# Altium footprint library Gan_cuk converter.PcbLib: 51 footprints (part 2 of 4)
Each footprint in its own frame and in the unit in brackets; x right, y up, seen from the top. Pads: shape width x height; smd on the part's side, far side on the other; paste and mask are expansions set on the pad; w line width, h text height; cw(c..) or ccw(c..) is an arc to the next point about the centre after c.
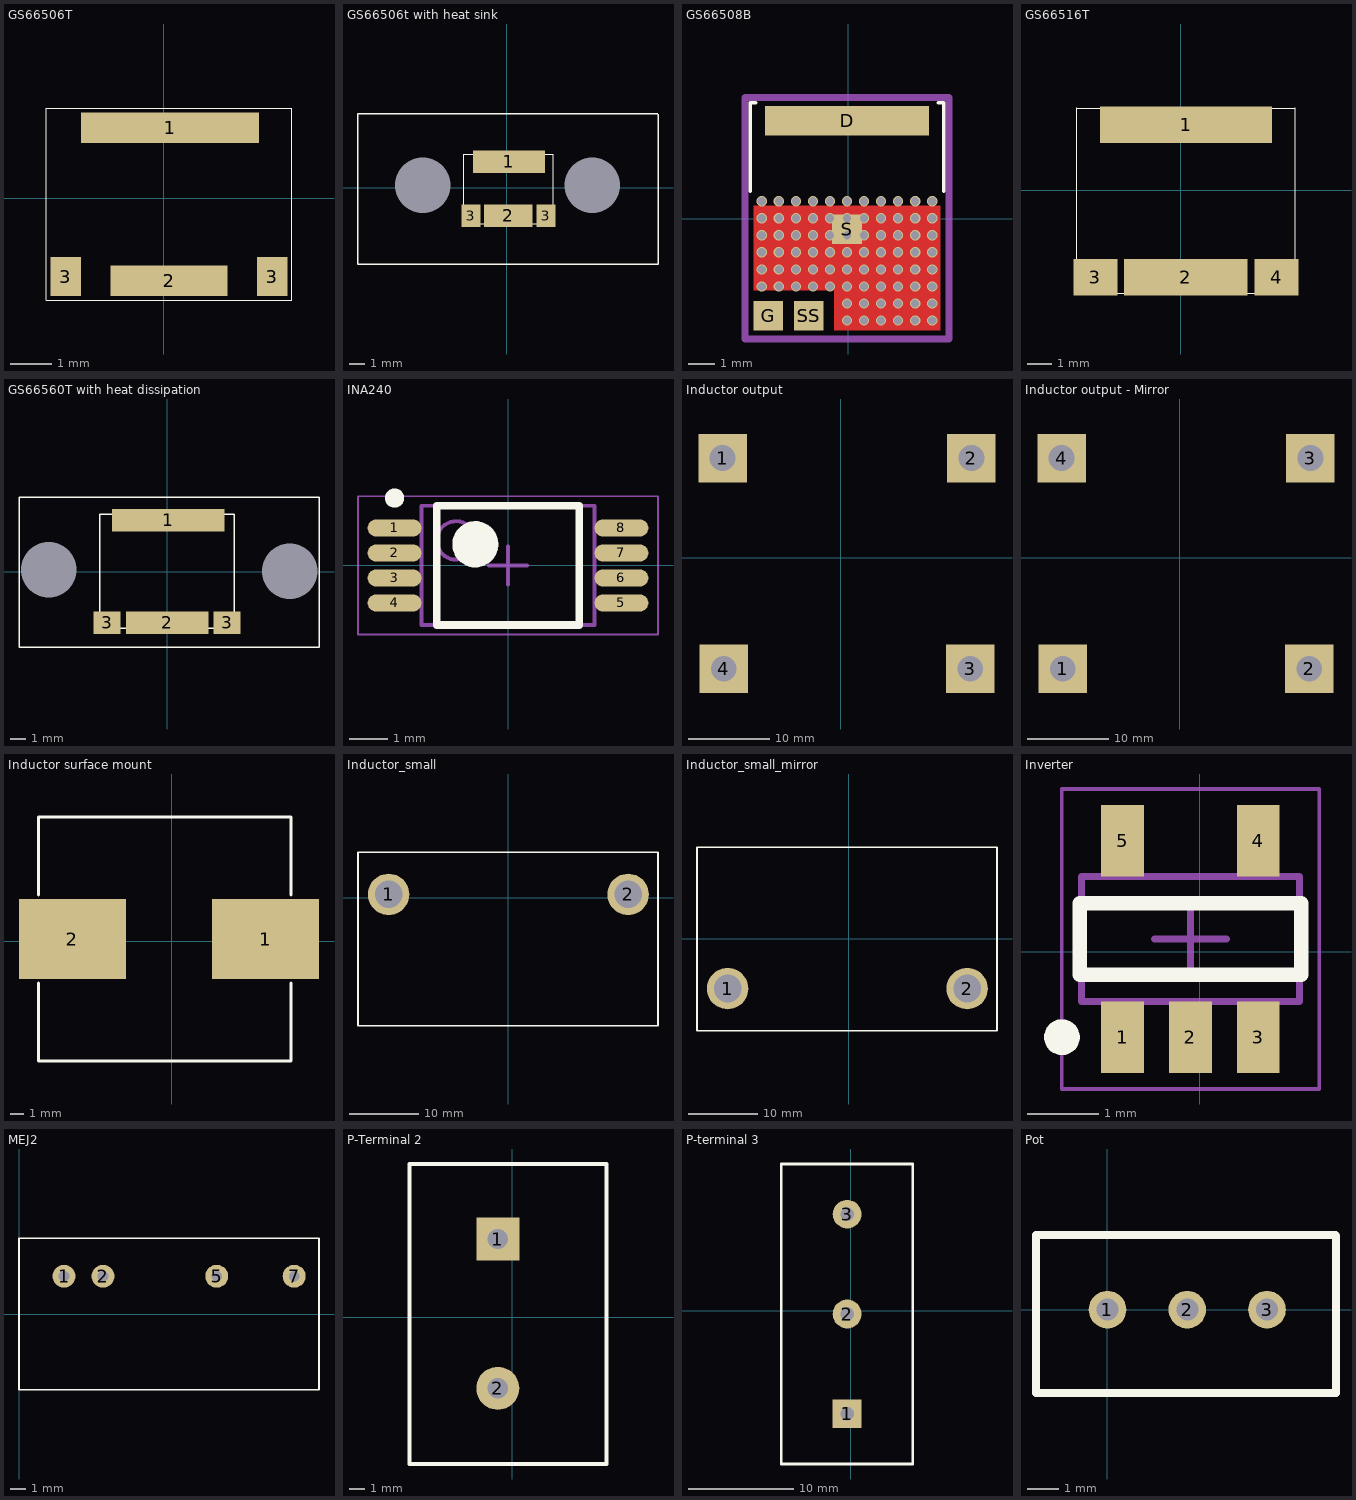
[diagram p1: the footprints below, top view; thin cyan lines are the x and y axes]

## GS66506T [mm] "Top cooled 650V enhancement mode GaN transistor"
height 0.44
pads (4):
  rect 4.3x0.74 smd: 1(0.15,1.7)
  rect 2.82x0.74 smd: 2(0.125,-2)
  rect 0.74x0.94 smd: 3(-2.375,-1.9) 3(2.625,-1.9)
Top Overlay:
  lines w0.025: -2.85,-2.475 -2.85,2.172 3.1,2.172 3.1,-2.475 -2.85,-2.475

## GS66506t with heat sink [mm]
pads (6):
  rect 4.8x1.5 smd: 1(0.15,1.7)
  rect 3.23x1.5 smd: 2(0.125,-1.9)
  rect 1.25x1.5 smd: 3(-2.375,-1.9) 3(2.625,-1.9)
  rect 0x0 hole 3.7: ""(-5.575,0.15) ""(5.725,0.15)
Top Overlay:
  lines w0.025: -2.85,-2.425 3.1,-2.425 3.1,2.222 -2.85,2.222 -2.85,-2.425
  lines w0.1: 10.075,4.9 -9.9,4.9 -9.9,-5.1 10.1,-5.1 10.1,4.875
3D body: height 25.4, standoff 0.5, extent -9.95,-5.15 10.15,4.95
3D body: height 0.5, standoff 0, extent -3.102,-2.752 3.352,2.552

## GS66508B [mm] "30A, 650V bottom side cooled"
pads (4):
  rect 6.1x1.1 smd: D(-0.05,3.655)
  rect 1.1x1.1 smd: G(-2.98,-3.605) S(-0.05,-0.377) SS(-1.47,-3.605)
via -0.05,-3.785 diameter 0.381 hole 0.305
via 0.585,-3.785 diameter 0.381 hole 0.305
via 1.22,-3.785 diameter 0.381 hole 0.305
via 1.855,-3.785 diameter 0.381 hole 0.305
via 2.49,-3.785 diameter 0.381 hole 0.305
via 3.125,-3.785 diameter 0.381 hole 0.305
via -3.225,0.66 diameter 0.381 hole 0.305
via -2.59,0.66 diameter 0.381 hole 0.305
via -1.955,0.66 diameter 0.381 hole 0.305
via -1.32,0.66 diameter 0.381 hole 0.305
via -0.685,0.66 diameter 0.381 hole 0.305
via -0.05,0.66 diameter 0.381 hole 0.305
via 0.585,0.66 diameter 0.381 hole 0.305
via 1.22,0.66 diameter 0.381 hole 0.305
via 1.855,0.66 diameter 0.381 hole 0.305
via 2.49,0.66 diameter 0.381 hole 0.305
via 3.125,0.66 diameter 0.381 hole 0.305
via -3.225,0.025 diameter 0.381 hole 0.305
via -2.59,0.025 diameter 0.381 hole 0.305
via -1.955,0.025 diameter 0.381 hole 0.305
via -1.32,0.025 diameter 0.381 hole 0.305
via -0.685,0.025 diameter 0.381 hole 0.305
via -0.05,0.025 diameter 0.381 hole 0.305
via 0.585,0.025 diameter 0.381 hole 0.305
via 1.22,0.025 diameter 0.381 hole 0.305
via 1.855,0.025 diameter 0.381 hole 0.305
via 2.49,0.025 diameter 0.381 hole 0.305
via 3.125,0.025 diameter 0.381 hole 0.305
via -3.225,-0.61 diameter 0.381 hole 0.305
via -2.59,-0.61 diameter 0.381 hole 0.305
via -1.955,-0.61 diameter 0.381 hole 0.305
via -1.32,-0.61 diameter 0.381 hole 0.305
via -0.685,-0.61 diameter 0.381 hole 0.305
via -0.05,-0.61 diameter 0.381 hole 0.305
via 0.585,-0.61 diameter 0.381 hole 0.305
via 1.22,-0.61 diameter 0.381 hole 0.305
via 1.855,-0.61 diameter 0.381 hole 0.305
via 2.49,-0.61 diameter 0.381 hole 0.305
via 3.125,-0.61 diameter 0.381 hole 0.305
via -3.225,-1.245 diameter 0.381 hole 0.305
via -2.59,-1.245 diameter 0.381 hole 0.305
via -1.955,-1.245 diameter 0.381 hole 0.305
via -1.32,-1.245 diameter 0.381 hole 0.305
via -0.685,-1.245 diameter 0.381 hole 0.305
via -0.05,-1.245 diameter 0.381 hole 0.305
via 0.585,-1.245 diameter 0.381 hole 0.305
via 1.22,-1.245 diameter 0.381 hole 0.305
via 1.855,-1.245 diameter 0.381 hole 0.305
via 2.49,-1.245 diameter 0.381 hole 0.305
via 3.125,-1.245 diameter 0.381 hole 0.305
via -3.225,-1.88 diameter 0.381 hole 0.305
via -2.59,-1.88 diameter 0.381 hole 0.305
via -1.955,-1.88 diameter 0.381 hole 0.305
via -1.32,-1.88 diameter 0.381 hole 0.305
via -0.685,-1.88 diameter 0.381 hole 0.305
via -0.05,-1.88 diameter 0.381 hole 0.305
via 0.585,-1.88 diameter 0.381 hole 0.305
via 1.22,-1.88 diameter 0.381 hole 0.305
via 1.855,-1.88 diameter 0.381 hole 0.305
via 2.49,-1.88 diameter 0.381 hole 0.305
via 3.125,-1.88 diameter 0.381 hole 0.305
via -3.225,-2.515 diameter 0.381 hole 0.305
via -2.59,-2.515 diameter 0.381 hole 0.305
via -1.955,-2.515 diameter 0.381 hole 0.305
via -1.32,-2.515 diameter 0.381 hole 0.305
via -0.685,-2.515 diameter 0.381 hole 0.305
via -0.05,-2.515 diameter 0.381 hole 0.305
via 0.585,-2.515 diameter 0.381 hole 0.305
via 1.22,-2.515 diameter 0.381 hole 0.305
via 1.855,-2.515 diameter 0.381 hole 0.305
via 2.49,-2.515 diameter 0.381 hole 0.305
via 3.125,-2.515 diameter 0.381 hole 0.305
via -0.05,-3.15 diameter 0.381 hole 0.305
via 0.585,-3.15 diameter 0.381 hole 0.305
via 1.22,-3.15 diameter 0.381 hole 0.305
via 1.855,-3.15 diameter 0.381 hole 0.305
via 2.49,-3.15 diameter 0.381 hole 0.305
via 3.125,-3.15 diameter 0.381 hole 0.305
Top Layer:
  region: -3.525,0.5 3.425,0.5 3.425,-4.15 -0.525,-4.15 -0.525,-2.65 -3.525,-2.65
Top Overlay:
  lines w0.127: -3.65,1.025 -3.65,4.325 -3.45,4.325 ; 3.35,4.325 3.55,4.325 3.55,1.025
Top Paste:
  region: -3.525,0.5 3.425,0.5 3.425,-4.15 -0.525,-4.15 -0.525,-2.65 -3.525,-2.65
Top Solder:
  region: -3.525,0.5 3.425,0.5 3.425,-4.15 -0.525,-4.15 -0.525,-2.65 -3.525,-2.65
Mechanical 5:
  lines w0.254: -3.85,-4.475 3.75,-4.475 3.75,4.525 -3.85,4.525 -3.85,-4.475
3D body: height 0.5, standoff 0, extent -3.55,-4.175 3.45,4.225

## GS66516T [mm] "Top cooled 650V enhancement mode GaN transistor"
height 0.44
pads (4):
  rect 7.04x1.5 smd: 1(0.212,2.675)
  rect 5.07x1.5 smd: 2(0.2,-3.575)
  rect 1.8x1.5 smd: 3(-3.5,-3.575) 4(3.925,-3.575)
Top Overlay:
  lines w0.025: -4.275,-4.225 -4.275,3.365 ; -4.265,3.35 4.685,3.35 ; -4.24,-4.225 4.71,-4.225 ; 4.7,-4.225 4.7,3.365

## GS66560T with heat dissipation [mm]
pads (6):
  rect 7.5x1.5 smd: 1(0.075,3.4)
  rect 5.5x1.5 smd: 2(0,-3.4)
  rect 1.8x1.5 smd: 3(-4,-3.4) 3(4,-3.4)
  rect 0x0 hole 3.7: ""(-7.875,0.125) ""(8.175,0.025)
Top Overlay:
  lines w0.1: -9.875,-5.05 -9.875,4.95 10.1,4.95 10.125,4.925 10.125,-5.05 -9.875,-5.05 ; -4.475,-3.775 4.475,-3.775 4.475,3.8 -4.475,3.8 -4.475,-3.775
3D body: height 0.5, standoff 0, extent -5.002,-4.252 5.002,4.252
3D body: height 25.4, standoff 0.5, extent -9.925,-5.1 10.175,5

## INA240 [mm] "TSOP, 8-Leads, Body 3.00x4.40mm, Pitch 0.65mm, IPC Medium Density"
height 1.2
pads (8):
  oval 1.4x0.45 smd: 1(-2.95,0.975) 2(-2.95,0.325) 3(-2.95,-0.325) 4(-2.95,-0.975) 5(2.95,-0.975) 6(2.95,-0.325) 7(2.95,0.325) 8(2.95,0.975)
Top Overlay:
  circle w0.6: c-0.85,0.55 r0.3
  circle w0.25: c-2.95,1.75 r0.125
  lines w0.2: -1.85,-1.55 1.85,-1.55 1.85,1.55 -1.85,1.55 -1.85,-1.55
Mechanical 13:
  circle w0.1: c-1.35,0.65 r0.5
  lines w0.1: -2.25,-1.55 2.25,-1.55 2.25,1.55 -2.25,1.55 -2.25,-1.55
Mechanical 15:
  lines w0.05: -3.9,-1.8 3.9,-1.8 3.9,1.8 -3.9,1.8 -3.9,-1.8
  lines w0.1: -0.5,0 0.5,0 ; 0,-0.5 0,0.5
3D body: height 1.2, standoff 0.15, extent -2.25,-1.55 2.25,1.55

## Inductor output [mm]
pads (4):
  rect 6x6 hole 3.2: 1(-14.622,12.291) 2(16.112,12.291) 3(15.985,-13.744) 4(-14.495,-13.744)
Bottom Overlay:
  lines w0.254: -17.797,-17.046 -17.797,15.466 19.287,15.466 19.287,-17.046 -17.797,-17.046
3D body: height 27.94, standoff 0, extent -17.724,-16.846 19.214,15.393

## Inductor output - Mirror [mm]
pads (4):
  rect 6x6 hole 3.2: 1(-14.495,-13.744) 2(15.985,-13.744) 3(16.112,12.291) 4(-14.622,12.291)
Bottom Overlay:
  lines w0.254: -17.797,-17.046 19.287,-17.046 19.287,15.466 -17.797,15.466 -17.797,-17.046
3D body: height 27.94, standoff 0, extent -17.724,-16.846 19.214,15.393

## Inductor surface mount [mm]
pads (2):
  rect 8x6 smd: 1(7.047,0.163) 2(-7.431,0.163)
Top Overlay:
  lines w0.254: -9.971,-3.139 -9.971,-8.981 8.952,-8.981 8.952,-3.139 ; -9.971,3.465 -9.971,9.307 8.952,9.307 8.952,3.465
3D body: height 9.4, standoff 0, extent -10.098,-9.108 9.079,9.434

## Inductor_small [mm]
pads (2):
  round 6 hole 4: 1(-17.272,0.508) 2(17.399,0.508)
Top Overlay:
  lines w0.254: -21.717,5.334 -21.717,6.604 21.717,6.604 21.717,-18.5 -21.717,-18.5 -21.717,5.715
3D body: height 43.18, standoff 0, extent -21.59,-18.475 21.59,6.731

## Inductor_small_mirror [mm]
pads (2):
  round 6 hole 4: 1(-17.526,-7.239) 2(17.145,-7.239)
Top Overlay:
  lines w0.254: -21.971,-12.446 -21.971,13.208 21.463,13.208 21.463,-13.335 -21.971,-13.335 -21.971,-12.065
3D body: height 43.18, standoff 0, extent -21.844,-10.425 21.336,4.625

## Inverter [mm] "SN74LVC1G04MDBVREP"
height 1
pads (5):
  rect 0.6x1 smd: 1(-1.077,-1.197) 2(-0.127,-1.197) 3(0.823,-1.197) 4(0.823,1.553) 5(-1.077,1.553)
Top Overlay:
  circle w0.25: c-1.927,-1.197 r0.125
  lines w0.2: -1.677,-0.322 -1.677,0.678 1.423,0.678 1.423,-0.322 -1.677,-0.322
Mechanical 13:
  lines w0.1: -1.652,-0.697 1.398,-0.697 1.398,1.053 -1.652,1.053 -1.652,-0.697
Mechanical 15:
  lines w0.05: -1.927,-1.922 1.673,-1.922 1.673,2.278 -1.927,2.278 -1.927,-1.922
  lines w0.1: -0.627,0.178 0.373,0.178 ; -0.127,-0.322 -0.127,0.678
3D body: height 1.45, standoff 0.05, extent -1.652,-0.697 1.398,1.053

## MEJ2 [mm]
pads (4):
  round 1.5 hole 0.7: 1(2.95,2.5) 2(5.5,2.5) 5(12.95,2.5) 7(18.025,2.5)
Top Overlay:
  lines w0.1: 0,-4.95 0,5 19.65,5 19.65,-4.95 0,-4.95
3D body: height 9.24, standoff 0, extent -0.05,-5 19.7,5.05

## P-Terminal 2 [mm]
pads (2):
  rect 2.75x2.75 hole 1.3: 1(-0.914,5.004)
  round 2.75 hole 1.3: 2(-0.914,-4.521)
Top Overlay:
  lines w0.254: -6.549,-9.347 -6.549,9.789 6.021,9.789 6.021,-9.347 -6.549,-9.347

## P-terminal 3 [mm]
pads (3):
  rect 2.75x2.75 hole 1.3: 1(-0.331,-9.829)
  round 2.75 hole 1.3: 2(-0.331,-0.309) 3(-0.331,9.211)
Top Overlay:
  lines w0.254: -6.631,-14.619 -6.631,14.001 5.939,14.001 5.939,-14.619 -6.631,-14.619

## Pot [mm] "3296W-1-253LF"
height 10
pads (3):
  round 1.2 hole 0.7: 1(0,0) 2(2.54,0) 3(5.08,0)
Top Overlay:
  lines w0.254: -2.275,2.35 -2.275,-2.65 7.275,-2.65 7.275,2.35 ; -2.275,2.375 7.255,2.375